# EAGLE library part AYF530465T (library AYF530465T)
Conn FPC Connector SKT 4 POS 0.5mm Solder RA SMD T/R Source: Datasheet <https://api.pim.na.industrial.panasonic.com/file_stream/main/fileversion/1656>
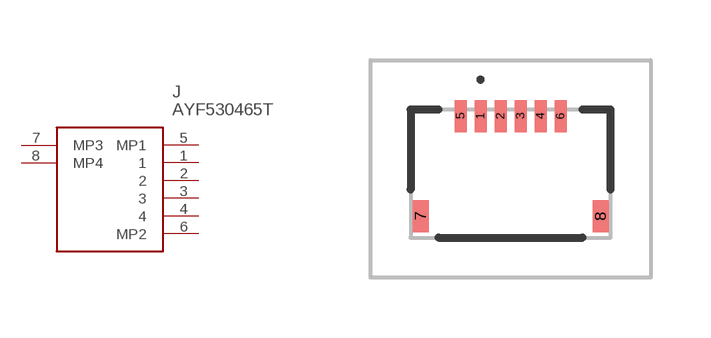
[diagram p0: symbol with the pads of AYF530465T; footprint AYF530465T]

Designator prefix J

## AYF530465T (Arrow_Part_Number: AYF530465T; Arrow_Price-Stock: null?region=nac; Description: Conn FPC Connector SKT 4 POS 0.5mm Solder RA SMD T/R; Height: 1.76mm; Manufacturer_Name: Panasonic; Manufacturer_Part_Number: AYF530465T)  [AYF530465T]
1  1
2  2
3  3
4  4
5  MP1
6  MP2
7  MP3
8  MP4

## Footprint AYF530465T (pad centres in mm)
AYF530465T-6
smd 0.3 x 0.8: 1 -0.75,1.44; 2 -0.25,1.44; 3 0.25,1.44; 4 0.75,1.44; 5 -1.25,1.44; 6 1.25,1.44
smd 0.4 x 0.8: 7 -2.25,-1.06; 8 2.25,-1.06